# Altium schematic symbol library microchip-memory.SchLib: 2 symbols
Pins are listed as number, name and electrical type; pins without a type are passive.

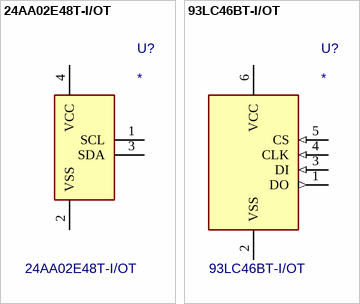
[diagram p0: symbols 24AA02E48T-I/OT to 93LC46BT-I/OT]

## 24AA02E48T-I/OT
designator U?  value 24AA02E48T-I/OT
2Kbit Serial EEPROM, I2C, MAC Address); MF: Microchip; PN: *; Package: SOT23-5; ExtraInfo: *
footprint SOT23-5 (5-Lead Plastic Small Outline Transistor)
pins: 1 SCL (oc), 2 VSS (power), 3 SDA (oc), 4 VCC (power)

## 93LC46BT-I/OT
designator U?  value 93LC46BT-I/OT
1Kbit Serial EEPROM; PN: *; Package: SOT23-6; ExtraInfo: *
footprint SOT23-6 (6-Lead Plastic Small Outline Transistor)
pins: 1 DO (out), 2 VSS (power), 3 DI (in), 4 CLK (in), 5 CS (in), 6 VCC (power)